# Altium schematic symbol library Linear Technology Power Management Energy Harvesting.SchLib: 169 symbols (part 8 of 13)
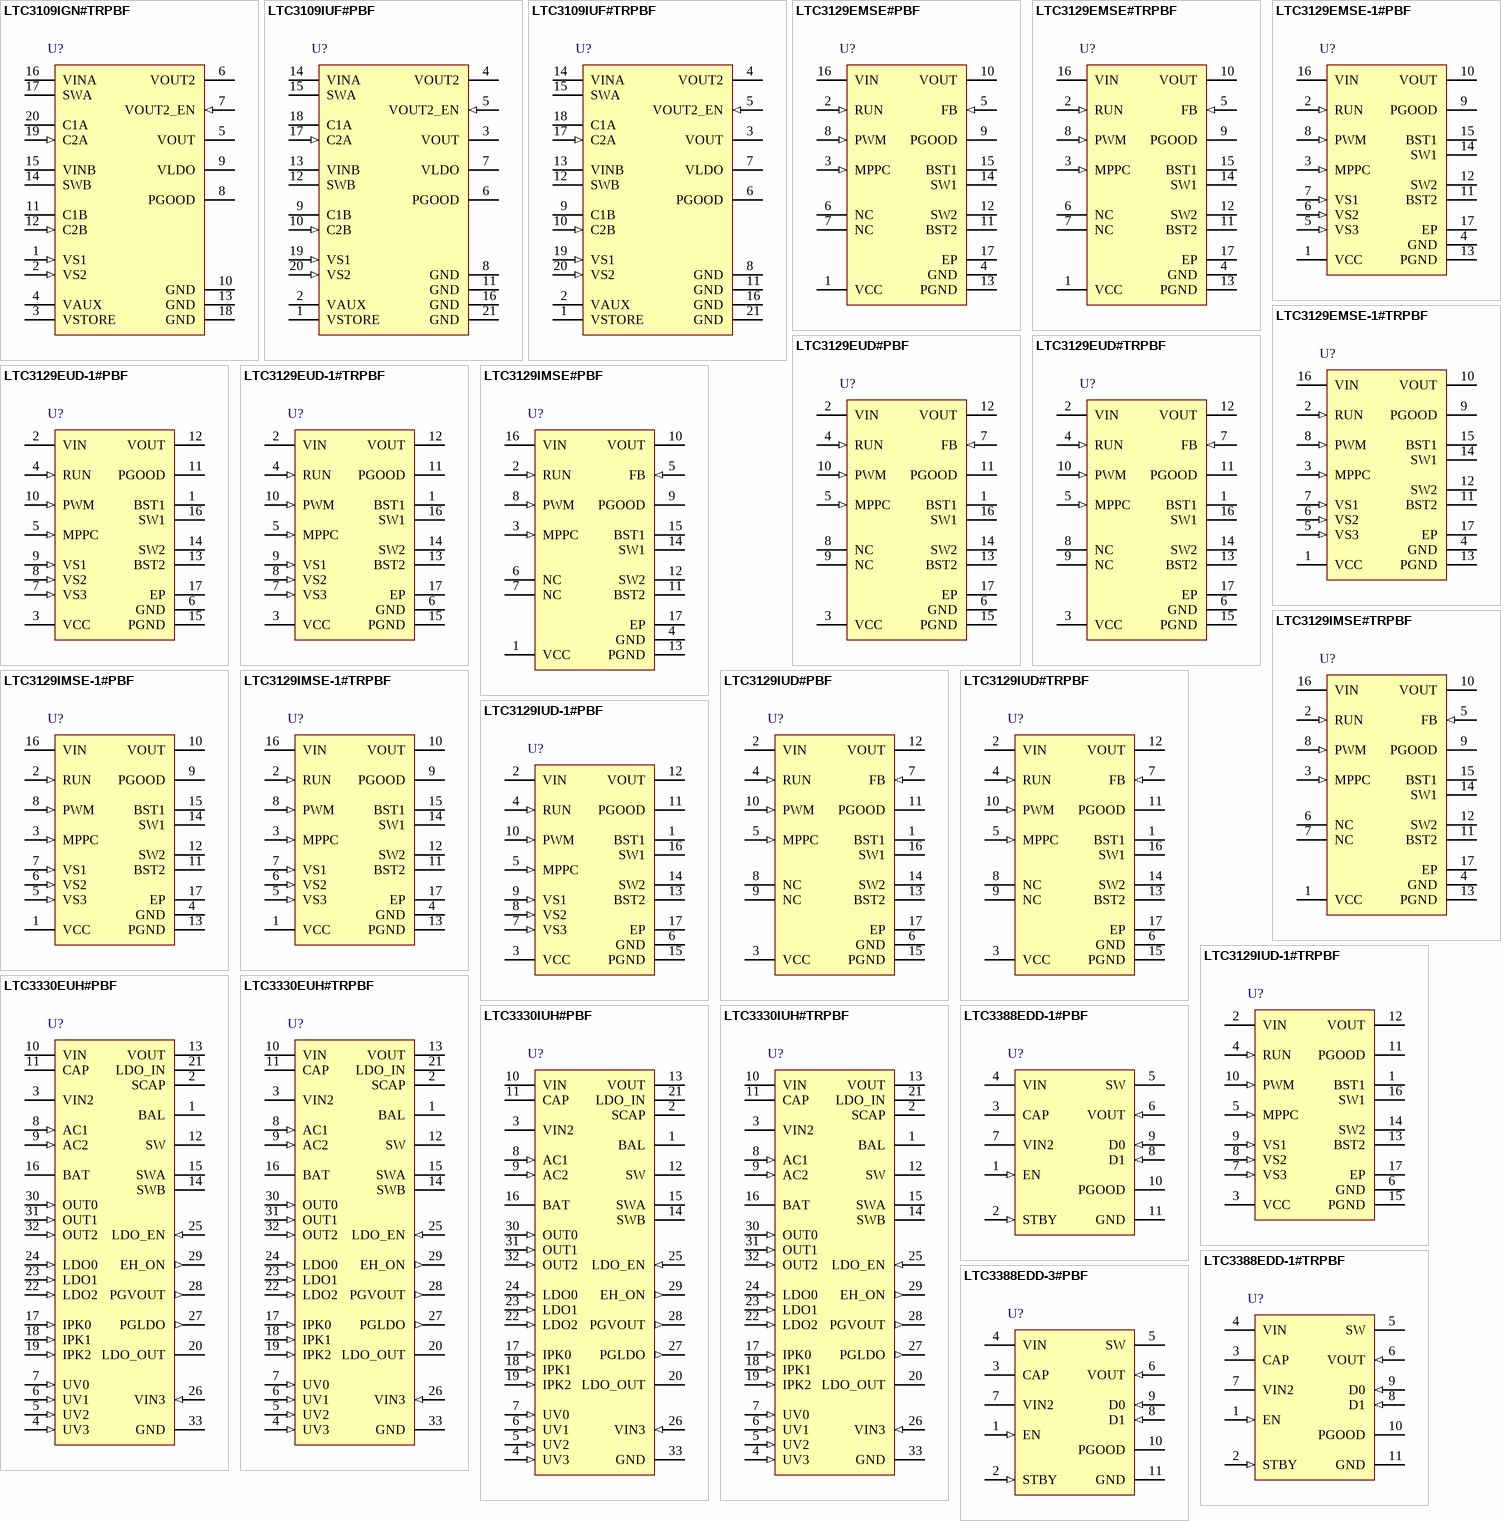
[diagram p12: symbols LTC3109IGN#TRPBF to LTC3388EDD-3#PBF]

## LTC3330IUH#TRPBF
designator U?
Energy Harvesting DC/DC with Battery Backup, 32-pin QFN (UH-32), -40 to 125 degC, Pb-Free, Tape and Reel; Manufacturer: Linear Technology; PartNumber: LTC3330IUH#TRPBF; Energy Source: Piezoelectric, Solar, Magnetic; Number of Outputs: 2; Topology: Buck-Boost; Vin Max(V): 18; Vin Min(V): 3; PackageVersion: Rev. D, 06/2010; PackageReference: UH-32; PackageDescription: 32-Pin Plastic QFN, Body 5 x 5 mm, Pitch 0.5 mm; Packing: Tape and Reel; RoHS: TRUE; Mounting Technology: Surface Mount; Code_JEDEC: MO-220; ComponentLink1Description: Manufacturer URL; ComponentLink1URL: http://www.linear.com/; ComponentLink2Description: Datasheet; ComponentLink2URL: http://cds.linear.com/docs/en/datasheet/3330p.pdf; ComponentLink3Description: Package Specification; ComponentLink3URL: http://cds.linear.com/docs/en/packaging/QFN_32_05-08-1693.pdf
footprint LT-UH-32_N (QFN, 32-Leads, Body 5.1x5.1mm, Pitch 0.5mm, Thermal Pad 3.45X3.45mm, IPC Medium Density)
footprint LT-UH-32_L (QFN, 32-Leads, Body 5.1x5.1mm, Pitch 0.5mm, Thermal Pad 3.45X3.45mm, IPC High Density)
footprint LT-UH-32_M (QFN, 32-Leads, Body 5.1x5.1mm, Pitch 0.5mm, Thermal Pad 3.45X3.45mm, IPC Low Density)
pins: 1 BAL "Supercapacitor Balance Point. The common node of a stack of two supercapacitors is connected to BAL. A source/sink balancing current of up to 10mA is available. Tie BAL along with SCAP to GND to disable the balancer and its (See Datasheet)", 2 SCAP "Supply and Sense Point for Supercapacitor Balancer. Tie the top of a 2-capacitor stack to SCAP and the middle of the stack to BAL to activate balancing. Tie SCAP along with BAL to GND to disable the balancer and its (See Datasheet)", 3 VIN2 (power) "Internal Low Voltage Rail to Serve as Gate Drive for Buck NMOS Switch. Connect a 4.7uF (or larger) capacitor from VIN2 to GND. This pin is not intended for use as an external system rail.", 4 UV3 (in) "UVLO Select Bits for the Buck Switching Regulator. Tie high to VIN2 or low to GND to select the desired UVLO rising and falling thresholds (see Table 4). Do not float.", 5 UV2 (in) "UVLO Select Bits for the Buck Switching Regulator. Tie high to VIN2 or low to GND to select the desired UVLO rising and falling thresholds (see Table 4). Do not float.", 6 UV1 (in) "UVLO Select Bits for the Buck Switching Regulator. Tie high to VIN2 or low to GND to select the desired UVLO rising and falling thresholds (see Table 4). Do not float.", 7 UV0 (in) "UVLO Select Bits for the Buck Switching Regulator. Tie high to VIN2 or low to GND to select the desired UVLO rising and falling thresholds (see Table 4). Do not float.", 8 AC1 (in) "Input Connection for Piezoelectric Element or Other AC Source (used in conjunction with AC2 for differential AC inputs).", 9 AC2 (in) "Input Connection for Piezoelectric Element or Other AC Source (used in conjunction with AC1 for differential AC inputs).", 10 VIN (power) "Rectified Input Voltage. A capacitor on this pin serves as an energy reservoir and input supply for the buck regulator. The VIN voltage is internally clamped to a maximum of 20V (typical).", 11 CAP "Internal Rail Referenced to VIN to Serve as Gate Drive for Buck PMOS Switch. Connect a 1uF (or larger) capacitor between CAP and VIN. This pin is not intended for use as an external system rail.", 12 SW (power) "Switch Node for the Buck Switching Regulator. Connect a 22uH or greater external inductor between this node and VOUT.", 13 VOUT (power) "Regulated Output Voltage Derived from the Buck or Buck-Boost Switching Regulator.", 14 SWB (power) "Switch Node for the Buck-Boost Switching Regulator. Connect an external inductor between this node and SWA of value per Table 3.", 15 SWA (power) "Switch Node for the Buck-Boost Switching Regulator. Connect an external inductor between this node and SWB of value per Table 3.", 16 BAT (power) "Input for Battery. BAT serves as the input to the buck-boost switching regulator.", 17 IPK0 (in) "IPEAK Select Bits or the Buck-Boost Switching Regulator. Tie high to VIN3 or low to GND to select the desired IPEAK (see Table 3). Do not float.", 18 IPK1 (in) "IPEAK Select Bits or the Buck-Boost Switching Regulator. Tie high to VIN3 or low to GND to select the desired IPEAK (see Table 3). Do not float.", 19 IPK2 (in) "IPEAK Select Bits or the Buck-Boost Switching Regulator. Tie high to VIN3 or low to GND to select the desired IPEAK (see Table 3). Do not float.", 20 LDO_OUT (power) "Regulated LDO Output. This output can be used as a quiet supply. One mode is provided to run the LDO as a current limited switch to alternately power up and power down circuitry without low power modes.", 21 LDO_IN (power) "Input Voltage for the LDO regulator.", 22 LDO2 (in) "LDO Voltage Select Bits. Tie high to LDO_IN or low to GND to select the desired LDO_OUT voltage (see Table 2). Do not float.", 23 LDO1 (in) "LDO Voltage Select Bits. Tie high to LDO_IN or low to GND to select the desired LDO_OUT voltage (see Table 2). Do not float.", 24 LDO0 (in) "LDO Voltage Select Bits. Tie high to LDO_IN or low to GND to select the desired LDO_OUT voltage (see Table 2). Do not float.", 25 LDO_EN (in) "LDO Enable Input. Active high input with logic levels referenced to LDO_IN. Do not float.", 26 VIN3 (in) "Internal Low Voltage Rail Used by the Prioritizer. Connect a 1uF (or larger) capacitor from VIN3 to GND. This pin is not intended for use as an external system rail.", 27 PGLDO (out) "Power Good Output for LDO_OUT. Logic level output referenced to an internal maximum rail (see Operation). PGLDO transitioning high indicates 92.5% (typical) regulation has been reached on LDO_OUT. PGLDO remains high until (See Datasheet)", 28 PGVOUT (out) "Power Good Output for VOUT. Logic level output referenced to an internal maximum rail (see Operation). PGVOUT transitioning high indicates regulation has been reached on VOUT (VOUT = Sleep Rising). PGVOUT remains high until (See Datasheet)", 29 EH_ON (out) "Switcher Status. Logic level output referenced to VIN3. EH_ON is high when the buck switching regulator is in use. It is pulled low when buck-boost switching regulator is in use.", 30 OUT0 (in) "VOUT Voltage Select Bits. Tie high to VIN3 or low to GND to select the desired VOUT (see Table 1). Do not float.", 31 OUT1 (in) "VOUT Voltage Select Bits. Tie high to VIN3 or low to GND to select the desired VOUT (see Table 1). Do not float.", 32 OUT2 (in) "VOUT Voltage Select Bits. Tie high to VIN3 or low to GND to select the desired VOUT (see Table 1). Do not float.", 33 GND (power) "Ground. The exposed pad must be connected to a continuous ground plane on the second layer of the printed circuit board by several vias directly under the LTC3330."

## LTC3388EDD-1#PBF
designator U?
20 V High Efficiency Nanopower Step-Down Regulator, 10-pin SON (DD-10), -40 to 125 degC, Pb-Free; Manufacturer: Linear Technology; PartNumber: LTC3388EDD-1#PBF; Number of Outputs: 1; Topology: Buck; Vin Max(V): 20; Vin Min(V): 2.7; Vout Max(V): 2.6; PackageVersion: Rev. C, 06/2010; PackageReference: DD-10; PackageDescription: 10-Pin Plastic DFN, Body 3 x 3 mm, Pitch 0.5 mm; Supplier 1: Digi-Key; Supplier Part Number 1: LTC3388EDD-1#PBF-ND; Supplier 2: Farnell; Supplier Part Number 2: 1947920; Supplier 3: Newark; Supplier Part Number 3: 84R6680; RoHS: TRUE; Mounting Technology: Surface Mount; Code_JEDEC: MO-229; ComponentLink1Description: Manufacturer URL; ComponentLink1URL: http://www.linear.com/; ComponentLink2Description: Datasheet; ComponentLink2URL: http://cds.linear.com/docs/en/datasheet/338813f.pdf; ComponentLink3Description: Package Specification; ComponentLink3URL: http://cds.linear.com/docs/en/packaging/DFN_10_05-08-1699.pdf
footprint LT-DD-10_V (SON, 10-Leads, Body 3x3mm, Pitch 0.5mm, Thermal Pad 2.38x1.65mm)
pins: 1 EN (in) "Enable Input. Logic level input referenced to VIN2. A logic high on EN will enable the buck converter. Driving EN to VIN2 will result in no additional quiescent current on VIN. However, if EN is driven near VIH or VIL 40nA (See Datasheet)", 2 STBY (in) "Standby Input. Logic level input referenced to VIN2. A logic high on STBY will place the part in standby mode. Driving STBY to VIN2 will result in no additional quiescent current on VIN. However, if STBY is driven near VIH (See Datasheet)", 3 CAP "Internal rail referenced to VIN to serve as gate drive for buck PMOS switch. A 1uF capacitor should be connected between CAP and VIN. This pin is not intended for use as an external system rail.", 4 VIN (power) "Input Voltage. A 2.2uF or larger capacitor should be connected from VIN to GND.", 5 SW (power) "Switch Pin for the Buck Switching Regulator. A 22uH or larger inductor should be connected from SW to VOUT.", 6 VOUT (in) "Sense pin used to monitor the output voltage and adjust it through internal feedback.", 7 VIN2 (power) "Internal low voltage rail to serve as gate drive for buck NMOS switch. Also serves as a logic high rail for output voltage select bits D0 and D1. A 4.7uF capacitor should be connected from VIN2 to GND. This pin is not (See Datasheet)", 8 D1 (in) "Output Voltage Select Bit. D1 should be tied high to VIN2 or low to GND to select desired VOUT (see Table 1).", 9 D0 (in) "Output Voltage Select Bit. D0 should be tied high to VIN2 or low to GND to select desired VOUT (see Table 1).", 10 PGOOD (hiz) "Power Good Open-Drain NMOS Output. The PGOOD pin is Hi-Z when VOUT is above 92% of the target value.", 11 GND (power) "Ground. The exposed pad should be connected to a continuous ground plane on the second layer of the printed circuit board by several vias directly under the LTC3388-1/LTC3388-3."

## LTC3388EDD-1#TRPBF
designator U?
20 V High Efficiency Nanopower Step-Down Regulator, 10-pin SON (DD-10), -40 to 125 degC, Pb-Free, Tape and Reel; Manufacturer: Linear Technology; PartNumber: LTC3388EDD-1#TRPBF; Number of Outputs: 1; Topology: Buck; Vin Max(V): 20; Vin Min(V): 2.7; Vout Max(V): 2.6; PackageVersion: Rev. C, 06/2010; PackageReference: DD-10; PackageDescription: 10-Pin Plastic DFN, Body 3 x 3 mm, Pitch 0.5 mm; Supplier 1: Digi-Key; Supplier Part Number 1: LTC3388EDD-1#TRPBF-ND; Packing: Tape and Reel; RoHS: TRUE; Mounting Technology: Surface Mount; Code_JEDEC: MO-229; ComponentLink1Description: Manufacturer URL; ComponentLink1URL: http://www.linear.com/; ComponentLink2Description: Datasheet; ComponentLink2URL: http://cds.linear.com/docs/en/datasheet/338813f.pdf; ComponentLink3Description: Package Specification; ComponentLink3URL: http://cds.linear.com/docs/en/packaging/DFN_10_05-08-1699.pdf
footprint LT-DD-10_V (SON, 10-Leads, Body 3x3mm, Pitch 0.5mm, Thermal Pad 2.38x1.65mm)
pins: 1 EN (in) "Enable Input. Logic level input referenced to VIN2. A logic high on EN will enable the buck converter. Driving EN to VIN2 will result in no additional quiescent current on VIN. However, if EN is driven near VIH or VIL 40nA (See Datasheet)", 2 STBY (in) "Standby Input. Logic level input referenced to VIN2. A logic high on STBY will place the part in standby mode. Driving STBY to VIN2 will result in no additional quiescent current on VIN. However, if STBY is driven near VIH (See Datasheet)", 3 CAP "Internal rail referenced to VIN to serve as gate drive for buck PMOS switch. A 1uF capacitor should be connected between CAP and VIN. This pin is not intended for use as an external system rail.", 4 VIN (power) "Input Voltage. A 2.2uF or larger capacitor should be connected from VIN to GND.", 5 SW (power) "Switch Pin for the Buck Switching Regulator. A 22uH or larger inductor should be connected from SW to VOUT.", 6 VOUT (in) "Sense pin used to monitor the output voltage and adjust it through internal feedback.", 7 VIN2 (power) "Internal low voltage rail to serve as gate drive for buck NMOS switch. Also serves as a logic high rail for output voltage select bits D0 and D1. A 4.7uF capacitor should be connected from VIN2 to GND. This pin is not (See Datasheet)", 8 D1 (in) "Output Voltage Select Bit. D1 should be tied high to VIN2 or low to GND to select desired VOUT (see Table 1).", 9 D0 (in) "Output Voltage Select Bit. D0 should be tied high to VIN2 or low to GND to select desired VOUT (see Table 1).", 10 PGOOD (hiz) "Power Good Open-Drain NMOS Output. The PGOOD pin is Hi-Z when VOUT is above 92% of the target value.", 11 GND (power) "Ground. The exposed pad should be connected to a continuous ground plane on the second layer of the printed circuit board by several vias directly under the LTC3388-1/LTC3388-3."

## LTC3388EDD-3#PBF
designator U?
20 V High Efficiency Nanopower Step-Down Regulator, 10-pin SON (DD-10), -40 to 125 degC, Pb-Free; Manufacturer: Linear Technology; PartNumber: LTC3388EDD-3#PBF; Number of Outputs: 1; Topology: Buck; Vin Max(V): 20; Vin Min(V): 2.7; Vout Max(V): 5.18; PackageVersion: Rev. C, 06/2010; PackageReference: DD-10; PackageDescription: 10-Pin Plastic DFN, Body 3 x 3 mm, Pitch 0.5 mm; Supplier 1: Digi-Key; Supplier Part Number 1: LTC3388EDD-3#PBF-ND; Supplier 2: Farnell; Supplier Part Number 2: 1847637; Supplier 3: Newark; Supplier Part Number 3: 84R6682; RoHS: TRUE; Mounting Technology: Surface Mount; Code_JEDEC: MO-229; ComponentLink1Description: Manufacturer URL; ComponentLink1URL: http://www.linear.com/; ComponentLink2Description: Datasheet; ComponentLink2URL: http://cds.linear.com/docs/en/datasheet/338813f.pdf; ComponentLink3Description: Package Specification; ComponentLink3URL: http://cds.linear.com/docs/en/packaging/DFN_10_05-08-1699.pdf
footprint LT-DD-10_V (SON, 10-Leads, Body 3x3mm, Pitch 0.5mm, Thermal Pad 2.38x1.65mm)
pins: 1 EN (in) "Enable Input. Logic level input referenced to VIN2. A logic high on EN will enable the buck converter. Driving EN to VIN2 will result in no additional quiescent current on VIN. However, if EN is driven near VIH or VIL 40nA (See Datasheet)", 2 STBY (in) "Standby Input. Logic level input referenced to VIN2. A logic high on STBY will place the part in standby mode. Driving STBY to VIN2 will result in no additional quiescent current on VIN. However, if STBY is driven near VIH (See Datasheet)", 3 CAP "Internal rail referenced to VIN to serve as gate drive for buck PMOS switch. A 1uF capacitor should be connected between CAP and VIN. This pin is not intended for use as an external system rail.", 4 VIN (power) "Input Voltage. A 2.2uF or larger capacitor should be connected from VIN to GND.", 5 SW (power) "Switch Pin for the Buck Switching Regulator. A 22uH or larger inductor should be connected from SW to VOUT.", 6 VOUT (in) "Sense pin used to monitor the output voltage and adjust it through internal feedback.", 7 VIN2 (power) "Internal low voltage rail to serve as gate drive for buck NMOS switch. Also serves as a logic high rail for output voltage select bits D0 and D1. A 4.7uF capacitor should be connected from VIN2 to GND. This pin is not (See Datasheet)", 8 D1 (in) "Output Voltage Select Bit. D1 should be tied high to VIN2 or low to GND to select desired VOUT (see Table 1).", 9 D0 (in) "Output Voltage Select Bit. D0 should be tied high to VIN2 or low to GND to select desired VOUT (see Table 1).", 10 PGOOD (hiz) "Power Good Open-Drain NMOS Output. The PGOOD pin is Hi-Z when VOUT is above 92% of the target value.", 11 GND (power) "Ground. The exposed pad should be connected to a continuous ground plane on the second layer of the printed circuit board by several vias directly under the LTC3388-1/LTC3388-3."

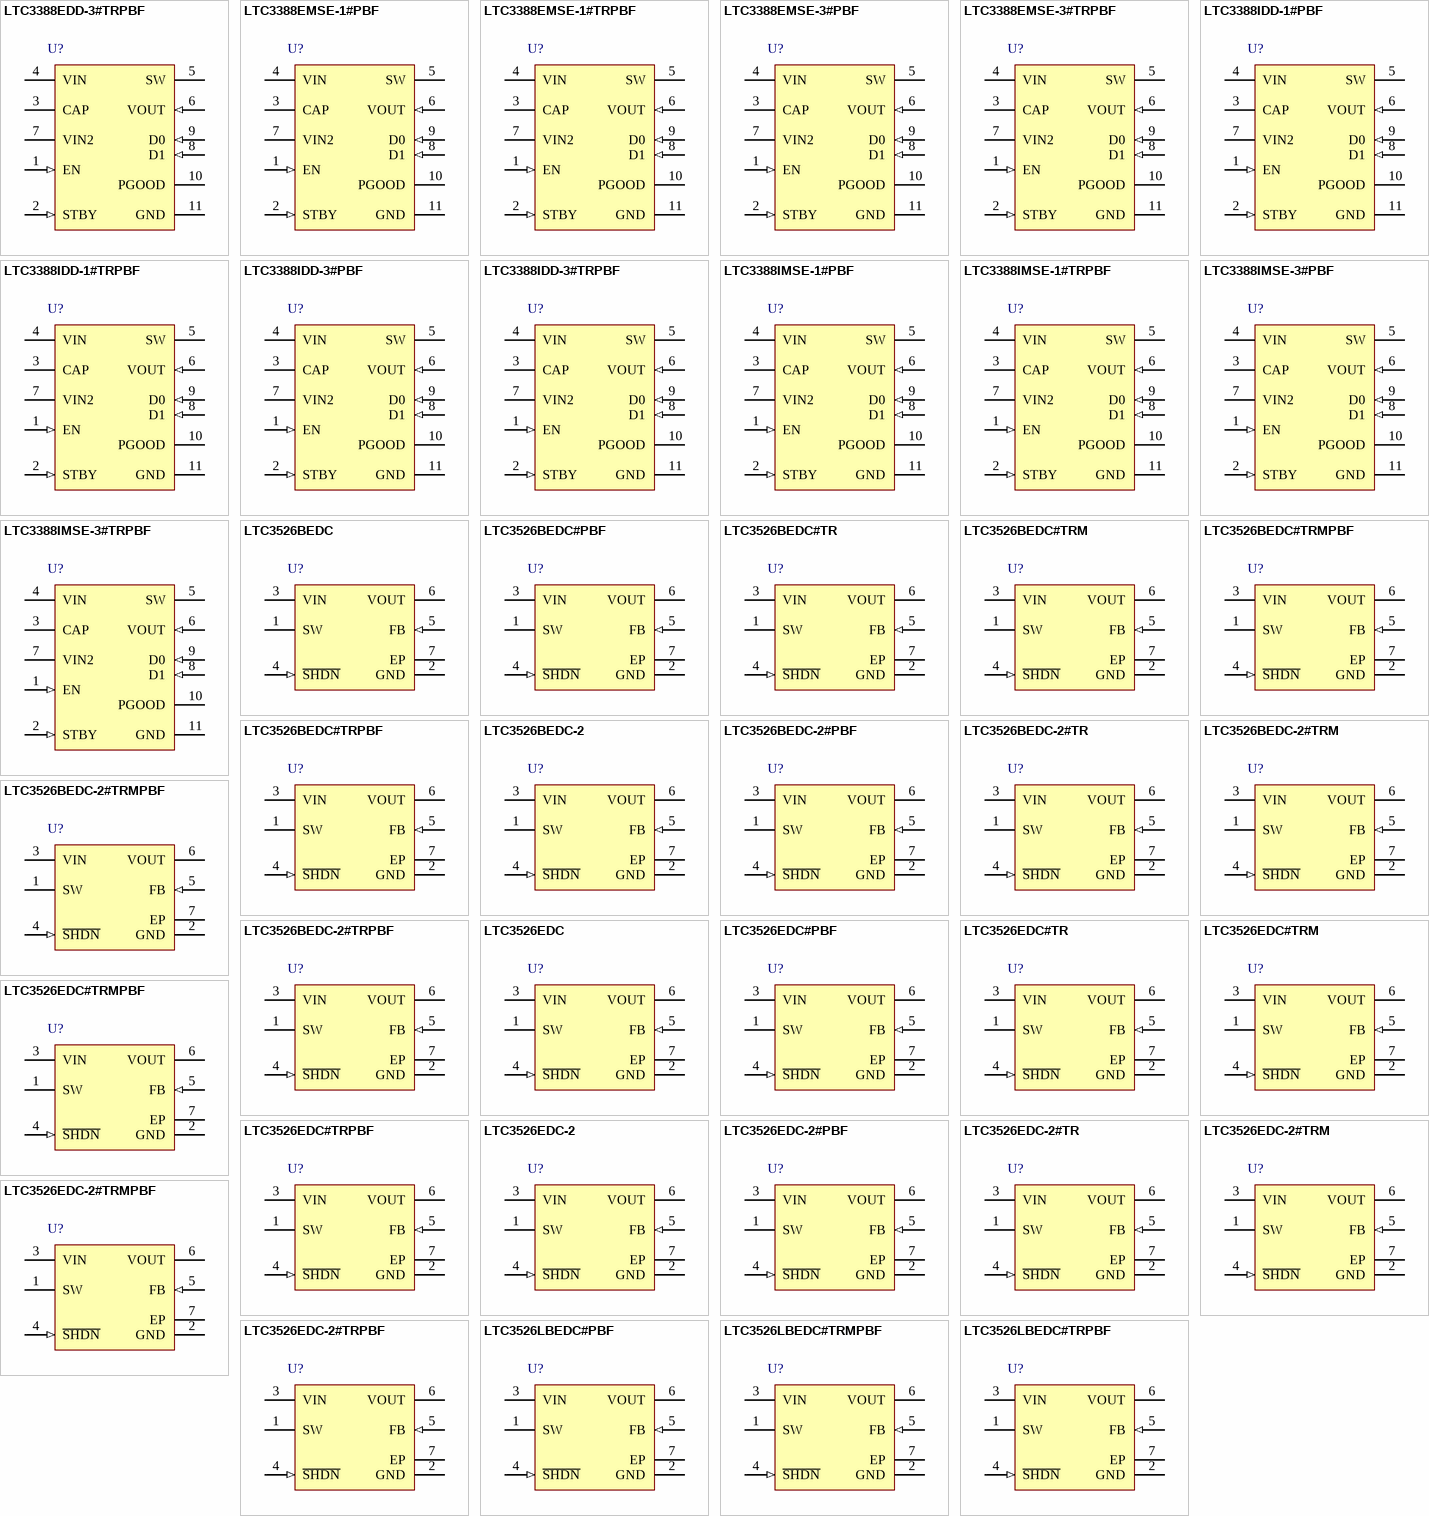
[diagram p3: symbols LTC3388EDD-3#TRPBF to LTC3526LBEDC#TRPBF]

## LTC3388EDD-3#TRPBF
designator U?
20 V High Efficiency Nanopower Step-Down Regulator, 10-pin SON (DD-10), -40 to 125 degC, Pb-Free, Tape and Reel; Manufacturer: Linear Technology; PartNumber: LTC3388EDD-3#TRPBF; Number of Outputs: 1; Topology: Buck; Vin Max(V): 20; Vin Min(V): 2.7; Vout Max(V): 5.18; PackageVersion: Rev. C, 06/2010; PackageReference: DD-10; PackageDescription: 10-Pin Plastic DFN, Body 3 x 3 mm, Pitch 0.5 mm; Supplier 1: Digi-Key; Supplier Part Number 1: LTC3388EDD-3#TRPBF-ND; Packing: Tape and Reel; RoHS: TRUE; Mounting Technology: Surface Mount; Code_JEDEC: MO-229; ComponentLink1Description: Manufacturer URL; ComponentLink1URL: http://www.linear.com/; ComponentLink2Description: Datasheet; ComponentLink2URL: http://cds.linear.com/docs/en/datasheet/338813f.pdf; ComponentLink3Description: Package Specification; ComponentLink3URL: http://cds.linear.com/docs/en/packaging/DFN_10_05-08-1699.pdf
footprint LT-DD-10_V (SON, 10-Leads, Body 3x3mm, Pitch 0.5mm, Thermal Pad 2.38x1.65mm)
pins: 1 EN (in) "Enable Input. Logic level input referenced to VIN2. A logic high on EN will enable the buck converter. Driving EN to VIN2 will result in no additional quiescent current on VIN. However, if EN is driven near VIH or VIL 40nA (See Datasheet)", 2 STBY (in) "Standby Input. Logic level input referenced to VIN2. A logic high on STBY will place the part in standby mode. Driving STBY to VIN2 will result in no additional quiescent current on VIN. However, if STBY is driven near VIH (See Datasheet)", 3 CAP "Internal rail referenced to VIN to serve as gate drive for buck PMOS switch. A 1uF capacitor should be connected between CAP and VIN. This pin is not intended for use as an external system rail.", 4 VIN (power) "Input Voltage. A 2.2uF or larger capacitor should be connected from VIN to GND.", 5 SW (power) "Switch Pin for the Buck Switching Regulator. A 22uH or larger inductor should be connected from SW to VOUT.", 6 VOUT (in) "Sense pin used to monitor the output voltage and adjust it through internal feedback.", 7 VIN2 (power) "Internal low voltage rail to serve as gate drive for buck NMOS switch. Also serves as a logic high rail for output voltage select bits D0 and D1. A 4.7uF capacitor should be connected from VIN2 to GND. This pin is not (See Datasheet)", 8 D1 (in) "Output Voltage Select Bit. D1 should be tied high to VIN2 or low to GND to select desired VOUT (see Table 1).", 9 D0 (in) "Output Voltage Select Bit. D0 should be tied high to VIN2 or low to GND to select desired VOUT (see Table 1).", 10 PGOOD (hiz) "Power Good Open-Drain NMOS Output. The PGOOD pin is Hi-Z when VOUT is above 92% of the target value.", 11 GND (power) "Ground. The exposed pad should be connected to a continuous ground plane on the second layer of the printed circuit board by several vias directly under the LTC3388-1/LTC3388-3."

## LTC3388EMSE-1#PBF
designator U?
20 V High Efficiency Nanopower Step-Down Regulator, 10-pin SOP (MSE-10), -40 to 125 degC, Pb-Free; Manufacturer: Linear Technology; PartNumber: LTC3388EMSE-1#PBF; Number of Outputs: 1; Topology: Buck; Vin Max(V): 20; Vin Min(V): 2.7; Vout Max(V): 2.6; PackageVersion: Rev. I, 05/2013; PackageReference: MSE-10; PackageDescription: 10-Pin Plastic MSOP, Exposed Die Pad, Body 3 x 3 mm, Pitch 0.5 mm; Supplier 1: Digi-Key; Supplier Part Number 1: LTC3388EMSE-1#PBF-ND; Supplier 2: Farnell; Supplier Part Number 2: 2102660; Supplier 3: Newark; Supplier Part Number 3: 84R6684; RoHS: TRUE; Mounting Technology: Surface Mount; ComponentLink1Description: Manufacturer URL; ComponentLink1URL: http://www.linear.com/; ComponentLink2Description: Datasheet; ComponentLink2URL: http://cds.linear.com/docs/en/datasheet/338813f.pdf; ComponentLink3Description: Package Specification; ComponentLink3URL: http://cds.linear.com/docs/en/packaging/05081664_I_MSE.pdf
footprint LT-MSE-10-EDP_N (SOP, 10-Leads, Body 3.1x3.1mm, Pitch 0.5mm, Thermal Pad 1.88x1.68mm, IPC Medium Density)
footprint LT-MSE-10-EDP_L (SOP, 10-Leads, Body 3.1x3.1mm, Pitch 0.5mm, Thermal Pad 1.88x1.68mm, IPC High Density)
footprint LT-MSE-10-EDP_M (SOP, 10-Leads, Body 3.1x3.1mm, Pitch 0.5mm, Thermal Pad 1.88x1.68mm, IPC Low Density)
pins: 1 EN (in) "Enable Input. Logic level input referenced to VIN2. A logic high on EN will enable the buck converter. Driving EN to VIN2 will result in no additional quiescent current on VIN. However, if EN is driven near VIH or VIL 40nA (See Datasheet)", 2 STBY (in) "Standby Input. Logic level input referenced to VIN2. A logic high on STBY will place the part in standby mode. Driving STBY to VIN2 will result in no additional quiescent current on VIN. However, if STBY is driven near VIH (See Datasheet)", 3 CAP "Internal rail referenced to VIN to serve as gate drive for buck PMOS switch. A 1uF capacitor should be connected between CAP and VIN. This pin is not intended for use as an external system rail.", 4 VIN (power) "Input Voltage. A 2.2uF or larger capacitor should be connected from VIN to GND.", 5 SW (power) "Switch Pin for the Buck Switching Regulator. A 22uH or larger inductor should be connected from SW to VOUT.", 6 VOUT (in) "Sense pin used to monitor the output voltage and adjust it through internal feedback.", 7 VIN2 (power) "Internal low voltage rail to serve as gate drive for buck NMOS switch. Also serves as a logic high rail for output voltage select bits D0 and D1. A 4.7uF capacitor should be connected from VIN2 to GND. This pin is not (See Datasheet)", 8 D1 (in) "Output Voltage Select Bit. D1 should be tied high to VIN2 or low to GND to select desired VOUT (see Table 1).", 9 D0 (in) "Output Voltage Select Bit. D0 should be tied high to VIN2 or low to GND to select desired VOUT (see Table 1).", 10 PGOOD (hiz) "Power Good Open-Drain NMOS Output. The PGOOD pin is Hi-Z when VOUT is above 92% of the target value.", 11 GND (power) "Ground. The exposed pad should be connected to a continuous ground plane on the second layer of the printed circuit board by several vias directly under the LTC3388-1/LTC3388-3."

## LTC3388EMSE-1#TRPBF
designator U?
20 V High Efficiency Nanopower Step-Down Regulator, 10-pin SOP (MSE-10-EDP), -40 to 125 degC, Pb-Free, Tape and Reel; Manufacturer: Linear Technology; PartNumber: LTC3388EMSE-1#TRPBF; Number of Outputs: 1; Topology: Buck; Vin Max(V): 20; Vin Min(V): 2.7; Vout Max(V): 2.6; PackageVersion: Rev. I, 05/2013; PackageReference: MSE-10; PackageDescription: 10-Pin Plastic MSOP, Exposed Die Pad, Body 3 x 3 mm, Pitch 0.5 mm; Supplier 1: Digi-Key; Supplier Part Number 1: LTC3388EMSE-1#TRPBF-ND; Packing: Tape and Reel; RoHS: TRUE; Mounting Technology: Surface Mount; ComponentLink1Description: Manufacturer URL; ComponentLink1URL: http://www.linear.com/; ComponentLink2Description: Datasheet; ComponentLink2URL: http://cds.linear.com/docs/en/datasheet/338813f.pdf; ComponentLink3Description: Package Specification; ComponentLink3URL: http://cds.linear.com/docs/en/packaging/05081664_I_MSE.pdf
footprint LT-MSE-10-EDP_N (SOP, 10-Leads, Body 3.1x3.1mm, Pitch 0.5mm, Thermal Pad 1.88x1.68mm, IPC Medium Density)
footprint LT-MSE-10-EDP_L (SOP, 10-Leads, Body 3.1x3.1mm, Pitch 0.5mm, Thermal Pad 1.88x1.68mm, IPC High Density)
footprint LT-MSE-10-EDP_M (SOP, 10-Leads, Body 3.1x3.1mm, Pitch 0.5mm, Thermal Pad 1.88x1.68mm, IPC Low Density)
pins: 1 EN (in) "Enable Input. Logic level input referenced to VIN2. A logic high on EN will enable the buck converter. Driving EN to VIN2 will result in no additional quiescent current on VIN. However, if EN is driven near VIH or VIL 40nA (See Datasheet)", 2 STBY (in) "Standby Input. Logic level input referenced to VIN2. A logic high on STBY will place the part in standby mode. Driving STBY to VIN2 will result in no additional quiescent current on VIN. However, if STBY is driven near VIH (See Datasheet)", 3 CAP "Internal rail referenced to VIN to serve as gate drive for buck PMOS switch. A 1uF capacitor should be connected between CAP and VIN. This pin is not intended for use as an external system rail.", 4 VIN (power) "Input Voltage. A 2.2uF or larger capacitor should be connected from VIN to GND.", 5 SW (power) "Switch Pin for the Buck Switching Regulator. A 22uH or larger inductor should be connected from SW to VOUT.", 6 VOUT (in) "Sense pin used to monitor the output voltage and adjust it through internal feedback.", 7 VIN2 (power) "Internal low voltage rail to serve as gate drive for buck NMOS switch. Also serves as a logic high rail for output voltage select bits D0 and D1. A 4.7uF capacitor should be connected from VIN2 to GND. This pin is not (See Datasheet)", 8 D1 (in) "Output Voltage Select Bit. D1 should be tied high to VIN2 or low to GND to select desired VOUT (see Table 1).", 9 D0 (in) "Output Voltage Select Bit. D0 should be tied high to VIN2 or low to GND to select desired VOUT (see Table 1).", 10 PGOOD (hiz) "Power Good Open-Drain NMOS Output. The PGOOD pin is Hi-Z when VOUT is above 92% of the target value.", 11 GND (power) "Ground. The exposed pad should be connected to a continuous ground plane on the second layer of the printed circuit board by several vias directly under the LTC3388-1/LTC3388-3."

## LTC3388EMSE-3#PBF
designator U?
20 V High Efficiency Nanopower Step-Down Regulator, 10-pin SOP (MSE-10), -40 to 125 degC, Pb-Free; Manufacturer: Linear Technology; PartNumber: LTC3388EMSE-3#PBF; Number of Outputs: 1; Topology: Buck; Vin Max(V): 20; Vin Min(V): 2.7; Vout Max(V): 5.18; PackageVersion: Rev. I, 05/2013; PackageReference: MSE-10; PackageDescription: 10-Pin Plastic MSOP, Exposed Die Pad, Body 3 x 3 mm, Pitch 0.5 mm; Supplier 1: Digi-Key; Supplier Part Number 1: LTC3388EMSE-3#PBF-ND; Supplier 2: Farnell; Supplier Part Number 2: 2295026; Supplier 3: Newark; Supplier Part Number 3: 84R6686; RoHS: TRUE; Mounting Technology: Surface Mount; ComponentLink1Description: Manufacturer URL; ComponentLink1URL: http://www.linear.com/; ComponentLink2Description: Datasheet; ComponentLink2URL: http://cds.linear.com/docs/en/datasheet/338813f.pdf; ComponentLink3Description: Package Specification; ComponentLink3URL: http://cds.linear.com/docs/en/packaging/05081664_I_MSE.pdf
footprint LT-MSE-10-EDP_N (SOP, 10-Leads, Body 3.1x3.1mm, Pitch 0.5mm, Thermal Pad 1.88x1.68mm, IPC Medium Density)
footprint LT-MSE-10-EDP_L (SOP, 10-Leads, Body 3.1x3.1mm, Pitch 0.5mm, Thermal Pad 1.88x1.68mm, IPC High Density)
footprint LT-MSE-10-EDP_M (SOP, 10-Leads, Body 3.1x3.1mm, Pitch 0.5mm, Thermal Pad 1.88x1.68mm, IPC Low Density)
pins: 1 EN (in) "Enable Input. Logic level input referenced to VIN2. A logic high on EN will enable the buck converter. Driving EN to VIN2 will result in no additional quiescent current on VIN. However, if EN is driven near VIH or VIL 40nA (See Datasheet)", 2 STBY (in) "Standby Input. Logic level input referenced to VIN2. A logic high on STBY will place the part in standby mode. Driving STBY to VIN2 will result in no additional quiescent current on VIN. However, if STBY is driven near VIH (See Datasheet)", 3 CAP "Internal rail referenced to VIN to serve as gate drive for buck PMOS switch. A 1uF capacitor should be connected between CAP and VIN. This pin is not intended for use as an external system rail.", 4 VIN (power) "Input Voltage. A 2.2uF or larger capacitor should be connected from VIN to GND.", 5 SW (power) "Switch Pin for the Buck Switching Regulator. A 22uH or larger inductor should be connected from SW to VOUT.", 6 VOUT (in) "Sense pin used to monitor the output voltage and adjust it through internal feedback.", 7 VIN2 (power) "Internal low voltage rail to serve as gate drive for buck NMOS switch. Also serves as a logic high rail for output voltage select bits D0 and D1. A 4.7uF capacitor should be connected from VIN2 to GND. This pin is not (See Datasheet)", 8 D1 (in) "Output Voltage Select Bit. D1 should be tied high to VIN2 or low to GND to select desired VOUT (see Table 1).", 9 D0 (in) "Output Voltage Select Bit. D0 should be tied high to VIN2 or low to GND to select desired VOUT (see Table 1).", 10 PGOOD (hiz) "Power Good Open-Drain NMOS Output. The PGOOD pin is Hi-Z when VOUT is above 92% of the target value.", 11 GND (power) "Ground. The exposed pad should be connected to a continuous ground plane on the second layer of the printed circuit board by several vias directly under the LTC3388-1/LTC3388-3."

## LTC3388EMSE-3#TRPBF
designator U?
20 V High Efficiency Nanopower Step-Down Regulator, 10-pin SOP (MSE-10), -40 to 125 degC, Pb-Free, Tape and Reel; Manufacturer: Linear Technology; PartNumber: LTC3388EMSE-3#TRPBF; Number of Outputs: 1; Topology: Buck; Vin Max(V): 20; Vin Min(V): 2.7; Vout Max(V): 5.18; PackageVersion: Rev. I, 05/2013; PackageReference: MSE-10; PackageDescription: 10-Pin Plastic MSOP, Exposed Die Pad, Body 3 x 3 mm, Pitch 0.5 mm; Supplier 1: Digi-Key; Supplier Part Number 1: LTC3388EMSE-3#TRPBF-ND; Packing: Tape and Reel; RoHS: TRUE; Mounting Technology: Surface Mount; ComponentLink1Description: Manufacturer URL; ComponentLink1URL: http://www.linear.com/; ComponentLink2Description: Datasheet; ComponentLink2URL: http://cds.linear.com/docs/en/datasheet/338813f.pdf; ComponentLink3Description: Package Specification; ComponentLink3URL: http://cds.linear.com/docs/en/packaging/05081664_I_MSE.pdf
footprint LT-MSE-10-EDP_N (SOP, 10-Leads, Body 3.1x3.1mm, Pitch 0.5mm, Thermal Pad 1.88x1.68mm, IPC Medium Density)
footprint LT-MSE-10-EDP_L (SOP, 10-Leads, Body 3.1x3.1mm, Pitch 0.5mm, Thermal Pad 1.88x1.68mm, IPC High Density)
footprint LT-MSE-10-EDP_M (SOP, 10-Leads, Body 3.1x3.1mm, Pitch 0.5mm, Thermal Pad 1.88x1.68mm, IPC Low Density)
pins: 1 EN (in) "Enable Input. Logic level input referenced to VIN2. A logic high on EN will enable the buck converter. Driving EN to VIN2 will result in no additional quiescent current on VIN. However, if EN is driven near VIH or VIL 40nA (See Datasheet)", 2 STBY (in) "Standby Input. Logic level input referenced to VIN2. A logic high on STBY will place the part in standby mode. Driving STBY to VIN2 will result in no additional quiescent current on VIN. However, if STBY is driven near VIH (See Datasheet)", 3 CAP "Internal rail referenced to VIN to serve as gate drive for buck PMOS switch. A 1uF capacitor should be connected between CAP and VIN. This pin is not intended for use as an external system rail.", 4 VIN (power) "Input Voltage. A 2.2uF or larger capacitor should be connected from VIN to GND.", 5 SW (power) "Switch Pin for the Buck Switching Regulator. A 22uH or larger inductor should be connected from SW to VOUT.", 6 VOUT (in) "Sense pin used to monitor the output voltage and adjust it through internal feedback.", 7 VIN2 (power) "Internal low voltage rail to serve as gate drive for buck NMOS switch. Also serves as a logic high rail for output voltage select bits D0 and D1. A 4.7uF capacitor should be connected from VIN2 to GND. This pin is not (See Datasheet)", 8 D1 (in) "Output Voltage Select Bit. D1 should be tied high to VIN2 or low to GND to select desired VOUT (see Table 1).", 9 D0 (in) "Output Voltage Select Bit. D0 should be tied high to VIN2 or low to GND to select desired VOUT (see Table 1).", 10 PGOOD (hiz) "Power Good Open-Drain NMOS Output. The PGOOD pin is Hi-Z when VOUT is above 92% of the target value.", 11 GND (power) "Ground. The exposed pad should be connected to a continuous ground plane on the second layer of the printed circuit board by several vias directly under the LTC3388-1/LTC3388-3."

## LTC3388IDD-1#PBF
designator U?
20 V High Efficiency Nanopower Step-Down Regulator, 10-pin SON (DD-10), -40 to 125 degC, Pb-Free; Manufacturer: Linear Technology; PartNumber: LTC3388IDD-1#PBF; Number of Outputs: 1; Topology: Buck; Vin Max(V): 20; Vin Min(V): 2.7; Vout Max(V): 2.6; PackageVersion: Rev. C, 06/2010; PackageReference: DD-10; PackageDescription: 10-Pin Plastic DFN, Body 3 x 3 mm, Pitch 0.5 mm; Supplier 1: Digi-Key; Supplier Part Number 1: LTC3388IDD-1#PBF-ND; RoHS: TRUE; Mounting Technology: Surface Mount; Code_JEDEC: MO-229; ComponentLink1Description: Manufacturer URL; ComponentLink1URL: http://www.linear.com/; ComponentLink2Description: Datasheet; ComponentLink2URL: http://cds.linear.com/docs/en/datasheet/338813f.pdf; ComponentLink3Description: Package Specification; ComponentLink3URL: http://cds.linear.com/docs/en/packaging/DFN_10_05-08-1699.pdf
footprint LT-DD-10_V (SON, 10-Leads, Body 3x3mm, Pitch 0.5mm, Thermal Pad 2.38x1.65mm)
pins: 1 EN (in) "Enable Input. Logic level input referenced to VIN2. A logic high on EN will enable the buck converter. Driving EN to VIN2 will result in no additional quiescent current on VIN. However, if EN is driven near VIH or VIL 40nA (See Datasheet)", 2 STBY (in) "Standby Input. Logic level input referenced to VIN2. A logic high on STBY will place the part in standby mode. Driving STBY to VIN2 will result in no additional quiescent current on VIN. However, if STBY is driven near VIH (See Datasheet)", 3 CAP "Internal rail referenced to VIN to serve as gate drive for buck PMOS switch. A 1uF capacitor should be connected between CAP and VIN. This pin is not intended for use as an external system rail.", 4 VIN (power) "Input Voltage. A 2.2uF or larger capacitor should be connected from VIN to GND.", 5 SW (power) "Switch Pin for the Buck Switching Regulator. A 22uH or larger inductor should be connected from SW to VOUT.", 6 VOUT (in) "Sense pin used to monitor the output voltage and adjust it through internal feedback.", 7 VIN2 (power) "Internal low voltage rail to serve as gate drive for buck NMOS switch. Also serves as a logic high rail for output voltage select bits D0 and D1. A 4.7uF capacitor should be connected from VIN2 to GND. This pin is not (See Datasheet)", 8 D1 (in) "Output Voltage Select Bit. D1 should be tied high to VIN2 or low to GND to select desired VOUT (see Table 1).", 9 D0 (in) "Output Voltage Select Bit. D0 should be tied high to VIN2 or low to GND to select desired VOUT (see Table 1).", 10 PGOOD (hiz) "Power Good Open-Drain NMOS Output. The PGOOD pin is Hi-Z when VOUT is above 92% of the target value.", 11 GND (power) "Ground. The exposed pad should be connected to a continuous ground plane on the second layer of the printed circuit board by several vias directly under the LTC3388-1/LTC3388-3."

## LTC3388IDD-1#TRPBF
designator U?
20 V High Efficiency Nanopower Step-Down Regulator, 10-pin SON (DD-10), -40 to 125 degC, Pb-Free, Tape and Reel; Manufacturer: Linear Technology; PartNumber: LTC3388IDD-1#TRPBF; Number of Outputs: 1; Topology: Buck; Vin Max(V): 20; Vin Min(V): 2.7; Vout Max(V): 2.6; PackageVersion: Rev. C, 06/2010; PackageReference: DD-10; PackageDescription: 10-Pin Plastic DFN, Body 3 x 3 mm, Pitch 0.5 mm; Supplier 1: Digi-Key; Supplier Part Number 1: LTC3388IDD-1#TRPBF-ND; Supplier 2: Newark; Supplier Part Number 2: 84R6689; Packing: Tape and Reel; RoHS: TRUE; Mounting Technology: Surface Mount; Code_JEDEC: MO-229; ComponentLink1Description: Manufacturer URL; ComponentLink1URL: http://www.linear.com/; ComponentLink2Description: Datasheet; ComponentLink2URL: http://cds.linear.com/docs/en/datasheet/338813f.pdf; ComponentLink3Description: Package Specification; ComponentLink3URL: http://cds.linear.com/docs/en/packaging/DFN_10_05-08-1699.pdf
footprint LT-DD-10_V (SON, 10-Leads, Body 3x3mm, Pitch 0.5mm, Thermal Pad 2.38x1.65mm)
pins: 1 EN (in) "Enable Input. Logic level input referenced to VIN2. A logic high on EN will enable the buck converter. Driving EN to VIN2 will result in no additional quiescent current on VIN. However, if EN is driven near VIH or VIL 40nA (See Datasheet)", 2 STBY (in) "Standby Input. Logic level input referenced to VIN2. A logic high on STBY will place the part in standby mode. Driving STBY to VIN2 will result in no additional quiescent current on VIN. However, if STBY is driven near VIH (See Datasheet)", 3 CAP "Internal rail referenced to VIN to serve as gate drive for buck PMOS switch. A 1uF capacitor should be connected between CAP and VIN. This pin is not intended for use as an external system rail.", 4 VIN (power) "Input Voltage. A 2.2uF or larger capacitor should be connected from VIN to GND.", 5 SW (power) "Switch Pin for the Buck Switching Regulator. A 22uH or larger inductor should be connected from SW to VOUT.", 6 VOUT (in) "Sense pin used to monitor the output voltage and adjust it through internal feedback.", 7 VIN2 (power) "Internal low voltage rail to serve as gate drive for buck NMOS switch. Also serves as a logic high rail for output voltage select bits D0 and D1. A 4.7uF capacitor should be connected from VIN2 to GND. This pin is not (See Datasheet)", 8 D1 (in) "Output Voltage Select Bit. D1 should be tied high to VIN2 or low to GND to select desired VOUT (see Table 1).", 9 D0 (in) "Output Voltage Select Bit. D0 should be tied high to VIN2 or low to GND to select desired VOUT (see Table 1).", 10 PGOOD (hiz) "Power Good Open-Drain NMOS Output. The PGOOD pin is Hi-Z when VOUT is above 92% of the target value.", 11 GND (power) "Ground. The exposed pad should be connected to a continuous ground plane on the second layer of the printed circuit board by several vias directly under the LTC3388-1/LTC3388-3."

## LTC3388IDD-3#PBF
designator U?
20 V High Efficiency Nanopower Step-Down Regulator, 10-pin SON (DD-10), -40 to 125 degC, Pb-Free; Manufacturer: Linear Technology; PartNumber: LTC3388IDD-3#PBF; Number of Outputs: 1; Topology: Buck; Vin Max(V): 20; Vin Min(V): 2.7; Vout Max(V): 5.18; PackageVersion: Rev. C, 06/2010; PackageReference: DD-10; PackageDescription: 10-Pin Plastic DFN, Body 3 x 3 mm, Pitch 0.5 mm; Supplier 1: Digi-Key; Supplier Part Number 1: LTC3388IDD-3#PBF-ND; Supplier 2: Newark; Supplier Part Number 2: 84R6690; RoHS: TRUE; Mounting Technology: Surface Mount; Code_JEDEC: MO-229; ComponentLink1Description: Manufacturer URL; ComponentLink1URL: http://www.linear.com/; ComponentLink2Description: Datasheet; ComponentLink2URL: http://cds.linear.com/docs/en/datasheet/338813f.pdf; ComponentLink3Description: Package Specification; ComponentLink3URL: http://cds.linear.com/docs/en/packaging/DFN_10_05-08-1699.pdf
footprint LT-DD-10_V (SON, 10-Leads, Body 3x3mm, Pitch 0.5mm, Thermal Pad 2.38x1.65mm)
pins: 1 EN (in) "Enable Input. Logic level input referenced to VIN2. A logic high on EN will enable the buck converter. Driving EN to VIN2 will result in no additional quiescent current on VIN. However, if EN is driven near VIH or VIL 40nA (See Datasheet)", 2 STBY (in) "Standby Input. Logic level input referenced to VIN2. A logic high on STBY will place the part in standby mode. Driving STBY to VIN2 will result in no additional quiescent current on VIN. However, if STBY is driven near VIH (See Datasheet)", 3 CAP "Internal rail referenced to VIN to serve as gate drive for buck PMOS switch. A 1uF capacitor should be connected between CAP and VIN. This pin is not intended for use as an external system rail.", 4 VIN (power) "Input Voltage. A 2.2uF or larger capacitor should be connected from VIN to GND.", 5 SW (power) "Switch Pin for the Buck Switching Regulator. A 22uH or larger inductor should be connected from SW to VOUT.", 6 VOUT (in) "Sense pin used to monitor the output voltage and adjust it through internal feedback.", 7 VIN2 (power) "Internal low voltage rail to serve as gate drive for buck NMOS switch. Also serves as a logic high rail for output voltage select bits D0 and D1. A 4.7uF capacitor should be connected from VIN2 to GND. This pin is not (See Datasheet)", 8 D1 (in) "Output Voltage Select Bit. D1 should be tied high to VIN2 or low to GND to select desired VOUT (see Table 1).", 9 D0 (in) "Output Voltage Select Bit. D0 should be tied high to VIN2 or low to GND to select desired VOUT (see Table 1).", 10 PGOOD (hiz) "Power Good Open-Drain NMOS Output. The PGOOD pin is Hi-Z when VOUT is above 92% of the target value.", 11 GND (power) "Ground. The exposed pad should be connected to a continuous ground plane on the second layer of the printed circuit board by several vias directly under the LTC3388-1/LTC3388-3."

## LTC3388IDD-3#TRPBF
designator U?
20 V High Efficiency Nanopower Step-Down Regulator, 10-pin SON (DD-10), -40 to 125 degC, Pb-Free, Tape and Reel; Manufacturer: Linear Technology; PartNumber: LTC3388IDD-3#TRPBF; Number of Outputs: 1; Topology: Buck; Vin Max(V): 20; Vin Min(V): 2.7; Vout Max(V): 5.18; PackageVersion: Rev. C, 06/2010; PackageReference: DD-10; PackageDescription: 10-Pin Plastic DFN, Body 3 x 3 mm, Pitch 0.5 mm; Supplier 1: Digi-Key; Supplier Part Number 1: LTC3388IDD-3#TRPBF-ND; Packing: Tape and Reel; RoHS: TRUE; Mounting Technology: Surface Mount; Code_JEDEC: MO-229; ComponentLink1Description: Manufacturer URL; ComponentLink1URL: http://www.linear.com/; ComponentLink2Description: Datasheet; ComponentLink2URL: http://cds.linear.com/docs/en/datasheet/338813f.pdf; ComponentLink3Description: Package Specification; ComponentLink3URL: http://cds.linear.com/docs/en/packaging/DFN_10_05-08-1699.pdf
footprint LT-DD-10_V (SON, 10-Leads, Body 3x3mm, Pitch 0.5mm, Thermal Pad 2.38x1.65mm)
pins: 1 EN (in) "Enable Input. Logic level input referenced to VIN2. A logic high on EN will enable the buck converter. Driving EN to VIN2 will result in no additional quiescent current on VIN. However, if EN is driven near VIH or VIL 40nA (See Datasheet)", 2 STBY (in) "Standby Input. Logic level input referenced to VIN2. A logic high on STBY will place the part in standby mode. Driving STBY to VIN2 will result in no additional quiescent current on VIN. However, if STBY is driven near VIH (See Datasheet)", 3 CAP "Internal rail referenced to VIN to serve as gate drive for buck PMOS switch. A 1uF capacitor should be connected between CAP and VIN. This pin is not intended for use as an external system rail.", 4 VIN (power) "Input Voltage. A 2.2uF or larger capacitor should be connected from VIN to GND.", 5 SW (power) "Switch Pin for the Buck Switching Regulator. A 22uH or larger inductor should be connected from SW to VOUT.", 6 VOUT (in) "Sense pin used to monitor the output voltage and adjust it through internal feedback.", 7 VIN2 (power) "Internal low voltage rail to serve as gate drive for buck NMOS switch. Also serves as a logic high rail for output voltage select bits D0 and D1. A 4.7uF capacitor should be connected from VIN2 to GND. This pin is not (See Datasheet)", 8 D1 (in) "Output Voltage Select Bit. D1 should be tied high to VIN2 or low to GND to select desired VOUT (see Table 1).", 9 D0 (in) "Output Voltage Select Bit. D0 should be tied high to VIN2 or low to GND to select desired VOUT (see Table 1).", 10 PGOOD (hiz) "Power Good Open-Drain NMOS Output. The PGOOD pin is Hi-Z when VOUT is above 92% of the target value.", 11 GND (power) "Ground. The exposed pad should be connected to a continuous ground plane on the second layer of the printed circuit board by several vias directly under the LTC3388-1/LTC3388-3."

## LTC3388IMSE-1#PBF
designator U?
20 V High Efficiency Nanopower Step-Down Regulator, 10-pin SOP (MSE-10), -40 to 125 degC, Pb-Free; Manufacturer: Linear Technology; PartNumber: LTC3388IMSE-1#PBF; Number of Outputs: 1; Topology: Buck; Vin Max(V): 20; Vin Min(V): 2.7; Vout Max(V): 2.6; PackageVersion: Rev. I, 05/2013; PackageReference: MSE-10; PackageDescription: 10-Pin Plastic MSOP, Exposed Die Pad, Body 3 x 3 mm, Pitch 0.5 mm; Supplier 1: Digi-Key; Supplier Part Number 1: LTC3388IMSE-1#PBF-ND; RoHS: TRUE; Mounting Technology: Surface Mount; ComponentLink1Description: Manufacturer URL; ComponentLink1URL: http://www.linear.com/; ComponentLink2Description: Datasheet; ComponentLink2URL: http://cds.linear.com/docs/en/datasheet/338813f.pdf; ComponentLink3Description: Package Specification; ComponentLink3URL: http://cds.linear.com/docs/en/packaging/05081664_I_MSE.pdf
footprint LT-MSE-10-EDP_N (SOP, 10-Leads, Body 3.1x3.1mm, Pitch 0.5mm, Thermal Pad 1.88x1.68mm, IPC Medium Density)
footprint LT-MSE-10-EDP_L (SOP, 10-Leads, Body 3.1x3.1mm, Pitch 0.5mm, Thermal Pad 1.88x1.68mm, IPC High Density)
footprint LT-MSE-10-EDP_M (SOP, 10-Leads, Body 3.1x3.1mm, Pitch 0.5mm, Thermal Pad 1.88x1.68mm, IPC Low Density)
pins: 1 EN (in) "Enable Input. Logic level input referenced to VIN2. A logic high on EN will enable the buck converter. Driving EN to VIN2 will result in no additional quiescent current on VIN. However, if EN is driven near VIH or VIL 40nA (See Datasheet)", 2 STBY (in) "Standby Input. Logic level input referenced to VIN2. A logic high on STBY will place the part in standby mode. Driving STBY to VIN2 will result in no additional quiescent current on VIN. However, if STBY is driven near VIH (See Datasheet)", 3 CAP "Internal rail referenced to VIN to serve as gate drive for buck PMOS switch. A 1uF capacitor should be connected between CAP and VIN. This pin is not intended for use as an external system rail.", 4 VIN (power) "Input Voltage. A 2.2uF or larger capacitor should be connected from VIN to GND.", 5 SW (power) "Switch Pin for the Buck Switching Regulator. A 22uH or larger inductor should be connected from SW to VOUT.", 6 VOUT (in) "Sense pin used to monitor the output voltage and adjust it through internal feedback.", 7 VIN2 (power) "Internal low voltage rail to serve as gate drive for buck NMOS switch. Also serves as a logic high rail for output voltage select bits D0 and D1. A 4.7uF capacitor should be connected from VIN2 to GND. This pin is not (See Datasheet)", 8 D1 (in) "Output Voltage Select Bit. D1 should be tied high to VIN2 or low to GND to select desired VOUT (see Table 1).", 9 D0 (in) "Output Voltage Select Bit. D0 should be tied high to VIN2 or low to GND to select desired VOUT (see Table 1).", 10 PGOOD (hiz) "Power Good Open-Drain NMOS Output. The PGOOD pin is Hi-Z when VOUT is above 92% of the target value.", 11 GND (power) "Ground. The exposed pad should be connected to a continuous ground plane on the second layer of the printed circuit board by several vias directly under the LTC3388-1/LTC3388-3."

## LTC3388IMSE-1#TRPBF
designator U?
20 V High Efficiency Nanopower Step-Down Regulator, 10-pin SOP (MSE-10), -40 to 125 degC, Pb-Free, Tape and Reel; Manufacturer: Linear Technology; PartNumber: LTC3388IMSE-1#TRPBF; Number of Outputs: 1; Topology: Buck; Vin Max(V): 20; Vin Min(V): 2.7; Vout Max(V): 2.6; PackageVersion: Rev. I, 05/2013; PackageReference: MSE-10; PackageDescription: 10-Pin Plastic MSOP, Exposed Die Pad, Body 3 x 3 mm, Pitch 0.5 mm; Supplier 1: Digi-Key; Supplier Part Number 1: LTC3388IMSE-1#TRPBF-ND; Packing: Tape and Reel; RoHS: TRUE; Mounting Technology: Surface Mount; ComponentLink1Description: Manufacturer URL; ComponentLink1URL: http://www.linear.com/; ComponentLink2Description: Datasheet; ComponentLink2URL: http://cds.linear.com/docs/en/datasheet/338813f.pdf; ComponentLink3Description: Package Specification; ComponentLink3URL: http://cds.linear.com/docs/en/packaging/05081664_I_MSE.pdf
footprint LT-MSE-10-EDP_N (SOP, 10-Leads, Body 3.1x3.1mm, Pitch 0.5mm, Thermal Pad 1.88x1.68mm, IPC Medium Density)
footprint LT-MSE-10-EDP_L (SOP, 10-Leads, Body 3.1x3.1mm, Pitch 0.5mm, Thermal Pad 1.88x1.68mm, IPC High Density)
footprint LT-MSE-10-EDP_M (SOP, 10-Leads, Body 3.1x3.1mm, Pitch 0.5mm, Thermal Pad 1.88x1.68mm, IPC Low Density)
pins: 1 EN (in) "Enable Input. Logic level input referenced to VIN2. A logic high on EN will enable the buck converter. Driving EN to VIN2 will result in no additional quiescent current on VIN. However, if EN is driven near VIH or VIL 40nA (See Datasheet)", 2 STBY (in) "Standby Input. Logic level input referenced to VIN2. A logic high on STBY will place the part in standby mode. Driving STBY to VIN2 will result in no additional quiescent current on VIN. However, if STBY is driven near VIH (See Datasheet)", 3 CAP "Internal rail referenced to VIN to serve as gate drive for buck PMOS switch. A 1uF capacitor should be connected between CAP and VIN. This pin is not intended for use as an external system rail.", 4 VIN (power) "Input Voltage. A 2.2uF or larger capacitor should be connected from VIN to GND.", 5 SW (power) "Switch Pin for the Buck Switching Regulator. A 22uH or larger inductor should be connected from SW to VOUT.", 6 VOUT (in) "Sense pin used to monitor the output voltage and adjust it through internal feedback.", 7 VIN2 (power) "Internal low voltage rail to serve as gate drive for buck NMOS switch. Also serves as a logic high rail for output voltage select bits D0 and D1. A 4.7uF capacitor should be connected from VIN2 to GND. This pin is not (See Datasheet)", 8 D1 (in) "Output Voltage Select Bit. D1 should be tied high to VIN2 or low to GND to select desired VOUT (see Table 1).", 9 D0 (in) "Output Voltage Select Bit. D0 should be tied high to VIN2 or low to GND to select desired VOUT (see Table 1).", 10 PGOOD (hiz) "Power Good Open-Drain NMOS Output. The PGOOD pin is Hi-Z when VOUT is above 92% of the target value.", 11 GND (power) "Ground. The exposed pad should be connected to a continuous ground plane on the second layer of the printed circuit board by several vias directly under the LTC3388-1/LTC3388-3."